# Altium footprint library PCB_Marking_Lib.PcbLib: 70 footprints (part 2 of 5)
Each footprint in its own frame and in the unit in brackets; x right, y up, seen from the top. Pads: shape width x height; smd on the part's side, far side on the other; paste and mask are expansions set on the pad; w line width, h text height; cw(c..) or ccw(c..) is an arc to the next point about the centre after c.
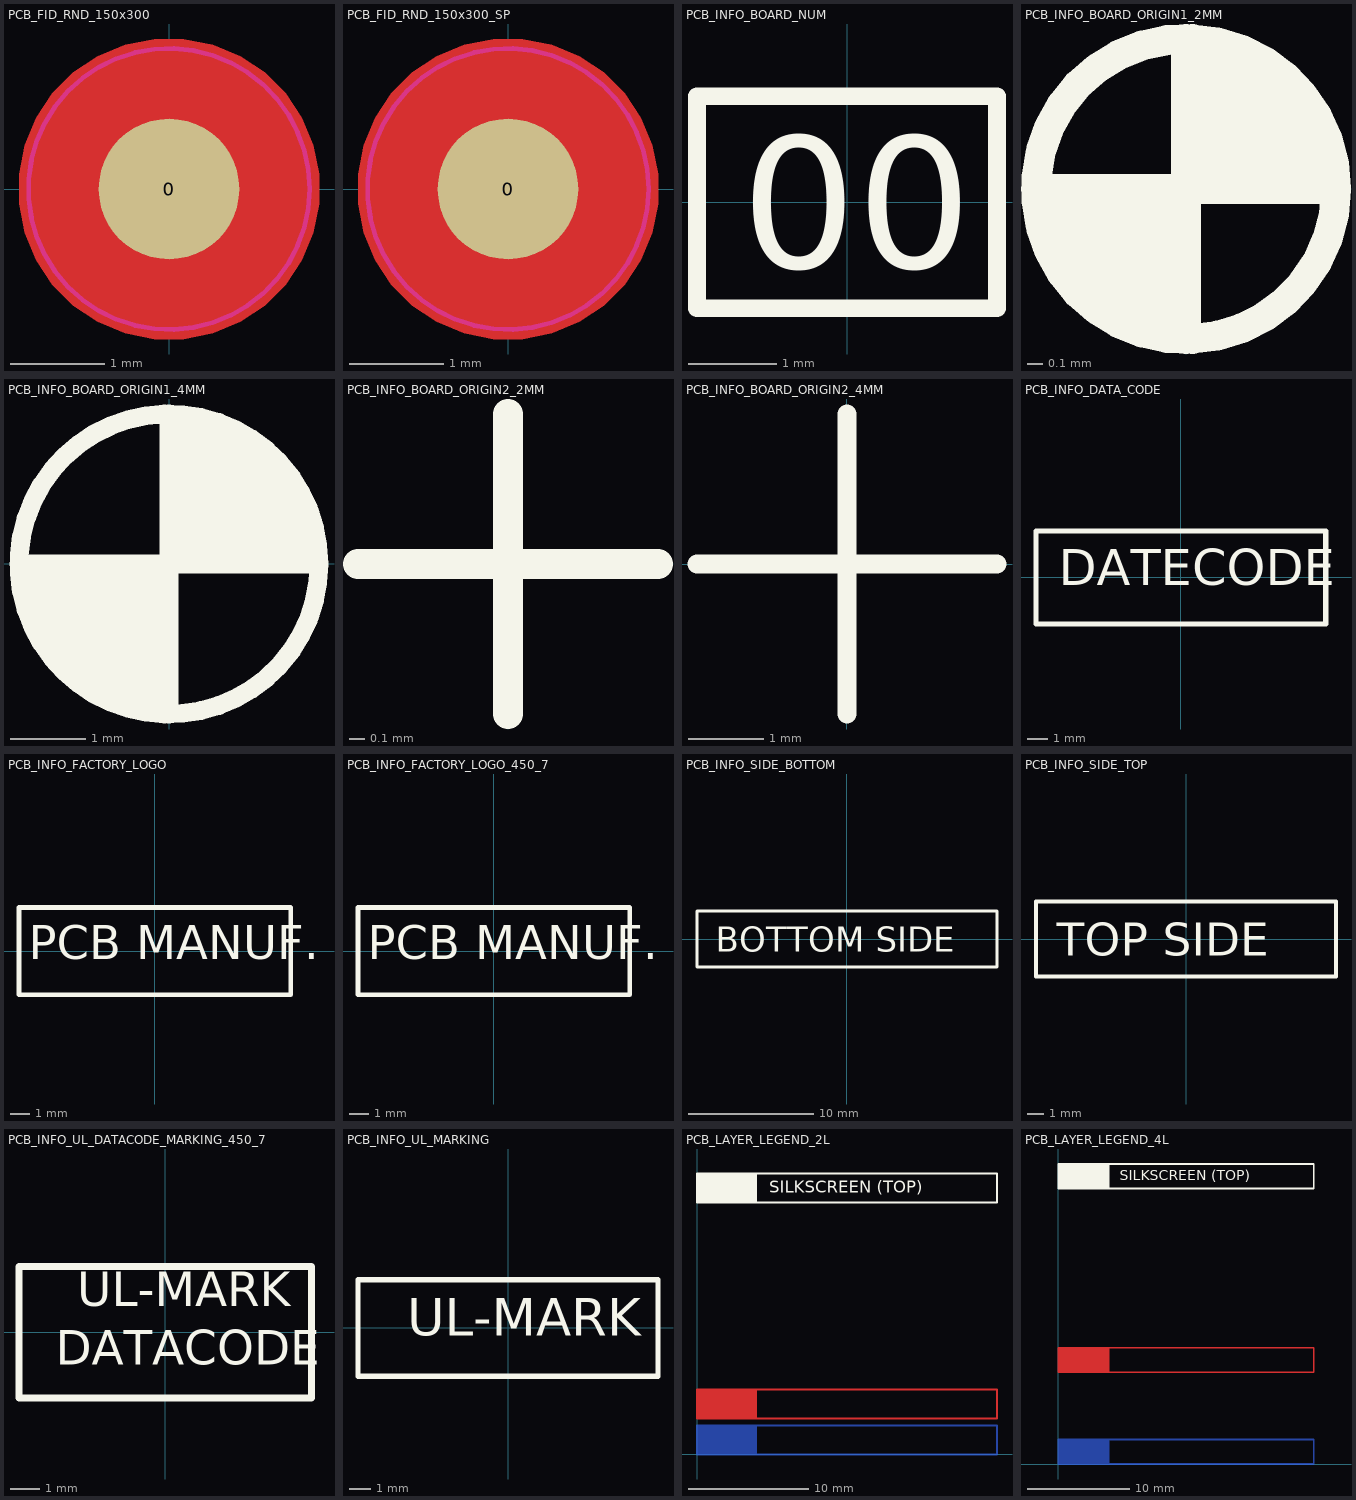
[diagram p1: the footprints below, top view; thin cyan lines are the x and y axes]

## PCB_FID_RND_150x300 [mm]
pads (1):
  round 1.5 smd paste-10 mask+0.75: 0(0,0)
Top Layer:
  pour cut-out: -1.6,0 -1.6,-0.158 -1.539,-0.467 -1.418,-0.758 -1.243,-1.02 -1.02,-1.243 -0.758,-1.418 -0.467,-1.539 -0.158,-1.6 0,-1.6 0.158,-1.6 0.467,-1.539 0.758,-1.418 1.02,-1.243 1.243,-1.02 1.418,-0.758 1.539,-0.467 1.6,-0.158 1.6,0 1.6,0.158 1.539,0.467 1.418,0.758 1.243,1.02 1.02,1.243 0.758,1.418 0.467,1.539 0.158,1.6 0,1.6 -0.158,1.6 -0.467,1.539 -0.758,1.418 -1.02,1.243 -1.243,1.02 -1.418,0.758 -1.539,0.467 -1.6,0.158
Top Layer keep-out:
  circle w0.05: c0,0 r1.5

## PCB_FID_RND_150x300_SP [mm]
pads (1):
  round 1.5 smd paste+0 mask+0.75: 0(0,0)
Top Layer:
  pour cut-out: -1.6,0 -1.6,-0.158 -1.539,-0.467 -1.418,-0.758 -1.243,-1.02 -1.02,-1.243 -0.758,-1.418 -0.467,-1.539 -0.158,-1.6 0,-1.6 0.158,-1.6 0.467,-1.539 0.758,-1.418 1.02,-1.243 1.243,-1.02 1.418,-0.758 1.539,-0.467 1.6,-0.158 1.6,0 1.6,0.158 1.539,0.467 1.418,0.758 1.243,1.02 1.02,1.243 0.758,1.418 0.467,1.539 0.158,1.6 0,1.6 -0.158,1.6 -0.467,1.539 -0.758,1.418 -1.02,1.243 -1.243,1.02 -1.418,0.758 -1.539,0.467 -1.6,0.158
Top Layer keep-out:
  circle w0.05: c0,0 r1.5

## PCB_INFO_BOARD_NUM [mm]
Top Overlay:
  lines w0.2: -1.7,-1.2 -1.7,1.2 1.7,1.2 1.7,-1.2 -1.7,-1.2
  text "00" at -1.2,-0.75 h1.5

## PCB_INFO_BOARD_ORIGIN1_2MM [mm]
Top Overlay:
  circle w0.2: c0,0 r1
  region: 0,0 1,0 1,0.098 0.962,0.292 0.886,0.474 0.777,0.637 0.637,0.777 0.474,0.886 0.292,0.962 0.098,1 0,1
  region: 0,0 -1,0 -1,-0.098 -0.962,-0.292 -0.886,-0.474 -0.777,-0.637 -0.637,-0.777 -0.474,-0.886 -0.292,-0.962 -0.098,-1 0,-1
  lines w0.2: -1,0 1,0 ; 0,-1 0,1

## PCB_INFO_BOARD_ORIGIN1_4MM [mm]
Top Overlay:
  circle w0.25: c0,0 r2
  region: 0,0 -2,0 -2,-0.197 -1.923,-0.583 -1.772,-0.947 -1.554,-1.275 -1.275,-1.553 -0.947,-1.772 -0.583,-1.923 -0.197,-2 0,-2
  region: 0,0 2,0 2,0.197 1.923,0.583 1.772,0.947 1.554,1.275 1.275,1.554 0.947,1.772 0.583,1.923 0.197,2 0,2
  lines w0.25: -2,0 2,0 ; 0,-2 0,2

## PCB_INFO_BOARD_ORIGIN2_2MM [mm]
Top Overlay:
  lines w0.2: -1,0 1,0 ; 0,-1 0,1

## PCB_INFO_BOARD_ORIGIN2_4MM [mm]
Top Overlay:
  lines w0.25: -2,0 2,0 ; 0,-2 0,2

## PCB_INFO_DATA_CODE [mm]
Top Overlay:
  lines w0.25: -7,-2.25 -7,2.25 7,2.25 7,-2.25 -7,-2.25
  text "DATECODE" at -5.9,-0.95 h3

## PCB_INFO_FACTORY_LOGO [mm]
Top Overlay:
  lines w0.25: -7,-2.25 -7,2.25 7,2.25 7,-2.25 -7,-2.25
  text "PCB MANUF." at -6.5,-1 h3

## PCB_INFO_FACTORY_LOGO_450_7 [mm]
Top Overlay:
  lines w0.25: -7,-2.25 7,-2.25 7,2.25 -7,2.25 -7,-2.25
  text "PCB MANUF." at -6.5,-1 h3

## PCB_INFO_SIDE_BOTTOM [mm]
Top Overlay:
  lines w0.25: -12,-2.25 -12,2.25 12,2.25 12,-2.25 -12,-2.25
  text "BOTTOM SIDE" at -10.5,-1 h2

## PCB_INFO_SIDE_TOP [mm]
Top Overlay:
  lines w0.25: -9,-2.25 9,-2.25 9,2.25 -9,2.25 -9,-2.25
  text "TOP SIDE" at -7.75,-1 h2

## PCB_INFO_UL_DATACODE_MARKING_450_7 [mm]
Top Overlay:
  lines w0.25: -5,-2.25 -5,2.25 5,2.25 5,-2.25 -5,-2.25
  text "UL-MARK" at -3,0.5 h2
  text "DATACODE" at -3.75,-1.5 h2

## PCB_INFO_UL_MARKING [mm]
Top Overlay:
  lines w0.25: -7,-2.25 7,-2.25 7,2.25 -7,2.25 -7,-2.25
  text "UL-MARK" at -4.7,-0.95 h3

## PCB_LAYER_LEGEND_2L [mm]
Top Layer:
  rectangle: 0,3 5,5.4
  lines w0.15: 0,3 25,3 25,5.4 0,5.4 0,3
  text "LAYER L1 (TOP)" at 6,3.8 h1
Bottom Layer:
  rectangle: 0,0 5,2.4
  lines w0.15: 0,0 0,2.4 25,2.4 25,0 0,0
  text "LAYER L2 (BOT)" at 6,0.8 h1
Top Overlay:
  rectangle: 0,21 5,23.4
  lines w0.15: 0,21 25,21 25,23.4 0,23.4 0,21
  text "SILKSCREEN (TOP)" at 6,21.8 h1
Bottom Overlay:
  rectangle: 0,18 5,20.4
  lines w0.15: 0,18 25,18 25,20.4 0,20.4 0,18
  text "SILKSCREEN (BOT)" at 6,18.8 h1
Top Paste:
  rectangle: 0,9 5,11.4
  lines w0.15: 0,9 25,9 25,11.4 0,11.4 0,9
  text "PASTEMASK (TOP)" at 6,9.8 h1
Bottom Paste:
  rectangle: 0,6 5,8.4
  lines w0.15: 0,6 25,6 25,8.4 0,8.4 0,6
  text "PASTEMASK (BOT)" at 6,6.8 h1
Top Solder:
  rectangle: 0,15 5,17.4
  lines w0.15: 0,15 25,15 25,17.4 0,17.4 0,15
  text "SOLDERMASK (TOP)" at 6,15.8 h1
Bottom Solder:
  rectangle: 0,12 5,14.4
  lines w0.15: 0,12 25,12 25,14.4 0,14.4 0,12
  text "SOLDERMASK (BOT)" at 6,12.8 h1

## PCB_LAYER_LEGEND_4L [mm]
Top Layer:
  rectangle: 0,9 5,11.4
  lines w0.15: 0,9 0,11.4 25,11.4 25,9 0,9
  text "LAYER L1 (TOP)" at 6,9.8 h1
Mid-Layer 1:
  rectangle: 0,6 5,8.4
  lines w0.15: 0,6 25,6 25,8.4 0,8.4 0,6
  text "LAYER L2" at 6,6.8 h1
Mid-Layer 2:
  rectangle: 0,3 5,5.4
  lines w0.15: 0,3 25,3 25,5.4 0,5.4 0,3
  text "LAYER L3" at 6,3.8 h1
Bottom Layer:
  rectangle: 0,0 5,2.4
  lines w0.15: 0,0 25,0 25,2.4 0,2.4 0,0
  text "LAYER L4 (BOT)" at 6,0.8 h1
Top Overlay:
  rectangle: 0,27 5,29.4
  lines w0.15: 0,27 0,29.4 25,29.4 25,27 0,27
  text "SILKSCREEN (TOP)" at 6,27.8 h1
Bottom Overlay:
  rectangle: 0,24 5,26.4
  lines w0.15: 0,24 0,26.4 25,26.4 25,24 0,24
  text "SILKSCREEN (BOT)" at 6,24.8 h1
Top Paste:
  rectangle: 0,15 5,17.4
  lines w0.15: 0,15 0,17.4 25,17.4 25,15 0,15
  text "PASTEMASK (TOP)" at 6,15.8 h1
Bottom Paste:
  rectangle: 0,12 5,14.4
  lines w0.15: 0,12 0,14.4 25,14.4 25,12 0,12
  text "PASTEMASK (BOT)" at 6,12.8 h1
Top Solder:
  rectangle: 0,21 5,23.4
  lines w0.15: 0,21 0,23.4 25,23.4 25,21 0,21
  text "SOLDERMASK (TOP)" at 6,21.8 h1
Bottom Solder:
  rectangle: 0,18 5,20.4
  lines w0.15: 0,18 0,20.4 25,20.4 25,18 0,18
  text "SOLDERMASK (BOT)" at 6,18.8 h1